# Altium schematic symbol library BIPOLAR-PNP-ECB.SchLib: 1 symbol
Pins are listed as number, name and electrical type; pins without a type are passive.

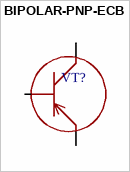
[diagram p0: symbol BIPOLAR-PNP-ECB]

## BIPOLAR-PNP-ECB
designator VT?
footprint TO-92
footprint SOT23-3
footprint TO-252
footprint TO-220-3
footprint TO-247-3
footprint SOT-223-3
footprint TO-220(bend2)
footprint TO-126
footprint SOT-89
pins: 1 E, 2 C, 3 B